# Altium footprint library LED_0805.PcbLib: 1 footprints
Each footprint in its own frame and in the unit in brackets; x right, y up, seen from the top. Pads: shape width x height; smd on the part's side, far side on the other; paste and mask are expansions set on the pad; w line width, h text height; cw(c..) or ccw(c..) is an arc to the next point about the centre after c.
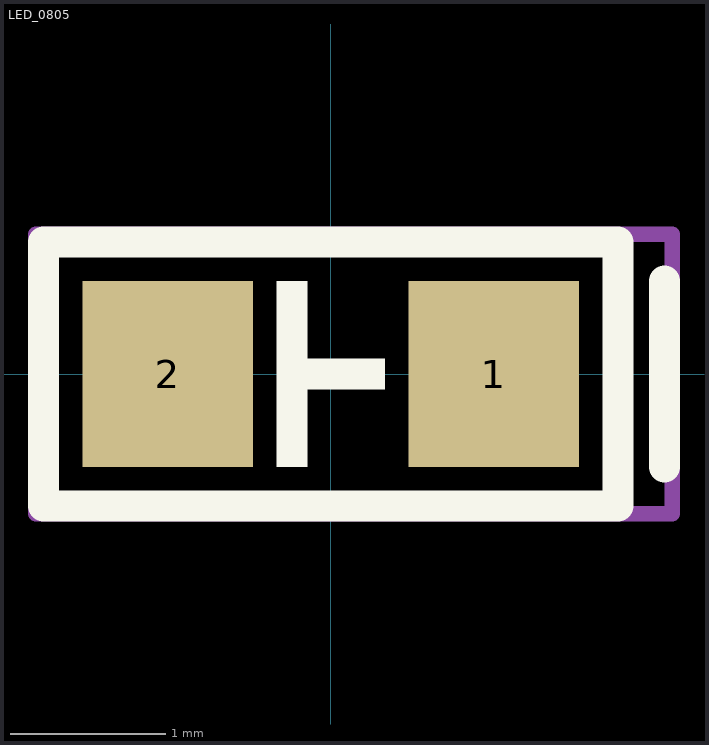
[diagram p0: the footprint, top view; thin cyan lines are the x and y axes]

## LED_0805 [mm]
pads (2):
  rect 1.1x1.2 smd: 1(1.05,0) 2(-1.05,0)
Top Overlay:
  rectangle: -0.35,-0.6 -0.15,0.6
  rectangle: -0.35,-0.1 0.35,0.1
  lines w0.2: 2.15,-0.6 2.15,0.6 ; -1.85,-0.85 1.85,-0.85 1.85,0.85 -1.85,0.85 -1.85,-0.85
Top Courtyard:
  lines w0.1: -1.9,-0.9 -1.9,0.9 2.2,0.9 2.2,-0.9 -1.9,-0.9
3D body "LED 0805 Lens RED.STEP": height 0.9, standoff 0.3, extent -0.65,-0.625 0.65,0.625
3D body "LED 0805 Base RED.STEP": height 0.4, standoff 0, extent -1,-0.625 1,0.625